# Altium schematic symbol library CAP,Cer,150nF,50VDC,X5R,0805.Schlib: 1 symbol
Pins are listed as number, name and electrical type; pins without a type are passive.

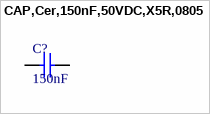
[diagram p0: symbol CAP,Cer,150nF,50VDC,X5R,0805]

## CAP,Cer,150nF,50VDC,X5R,0805
designator C?, comment 150nF
0.15 µF ±20% 50V Ceramic Capacitor X5R 0805 (2012 Metric)
pins: 1, 2